# Altium footprint library tdk.PcbLib: 64 footprints (part 3 of 4)
Each footprint in its own frame and in the unit in brackets; x right, y up, seen from the top. Pads: shape width x height; smd on the part's side, far side on the other; paste and mask are expansions set on the pad; w line width, h text height; cw(c..) or ccw(c..) is an arc to the next point about the centre after c.
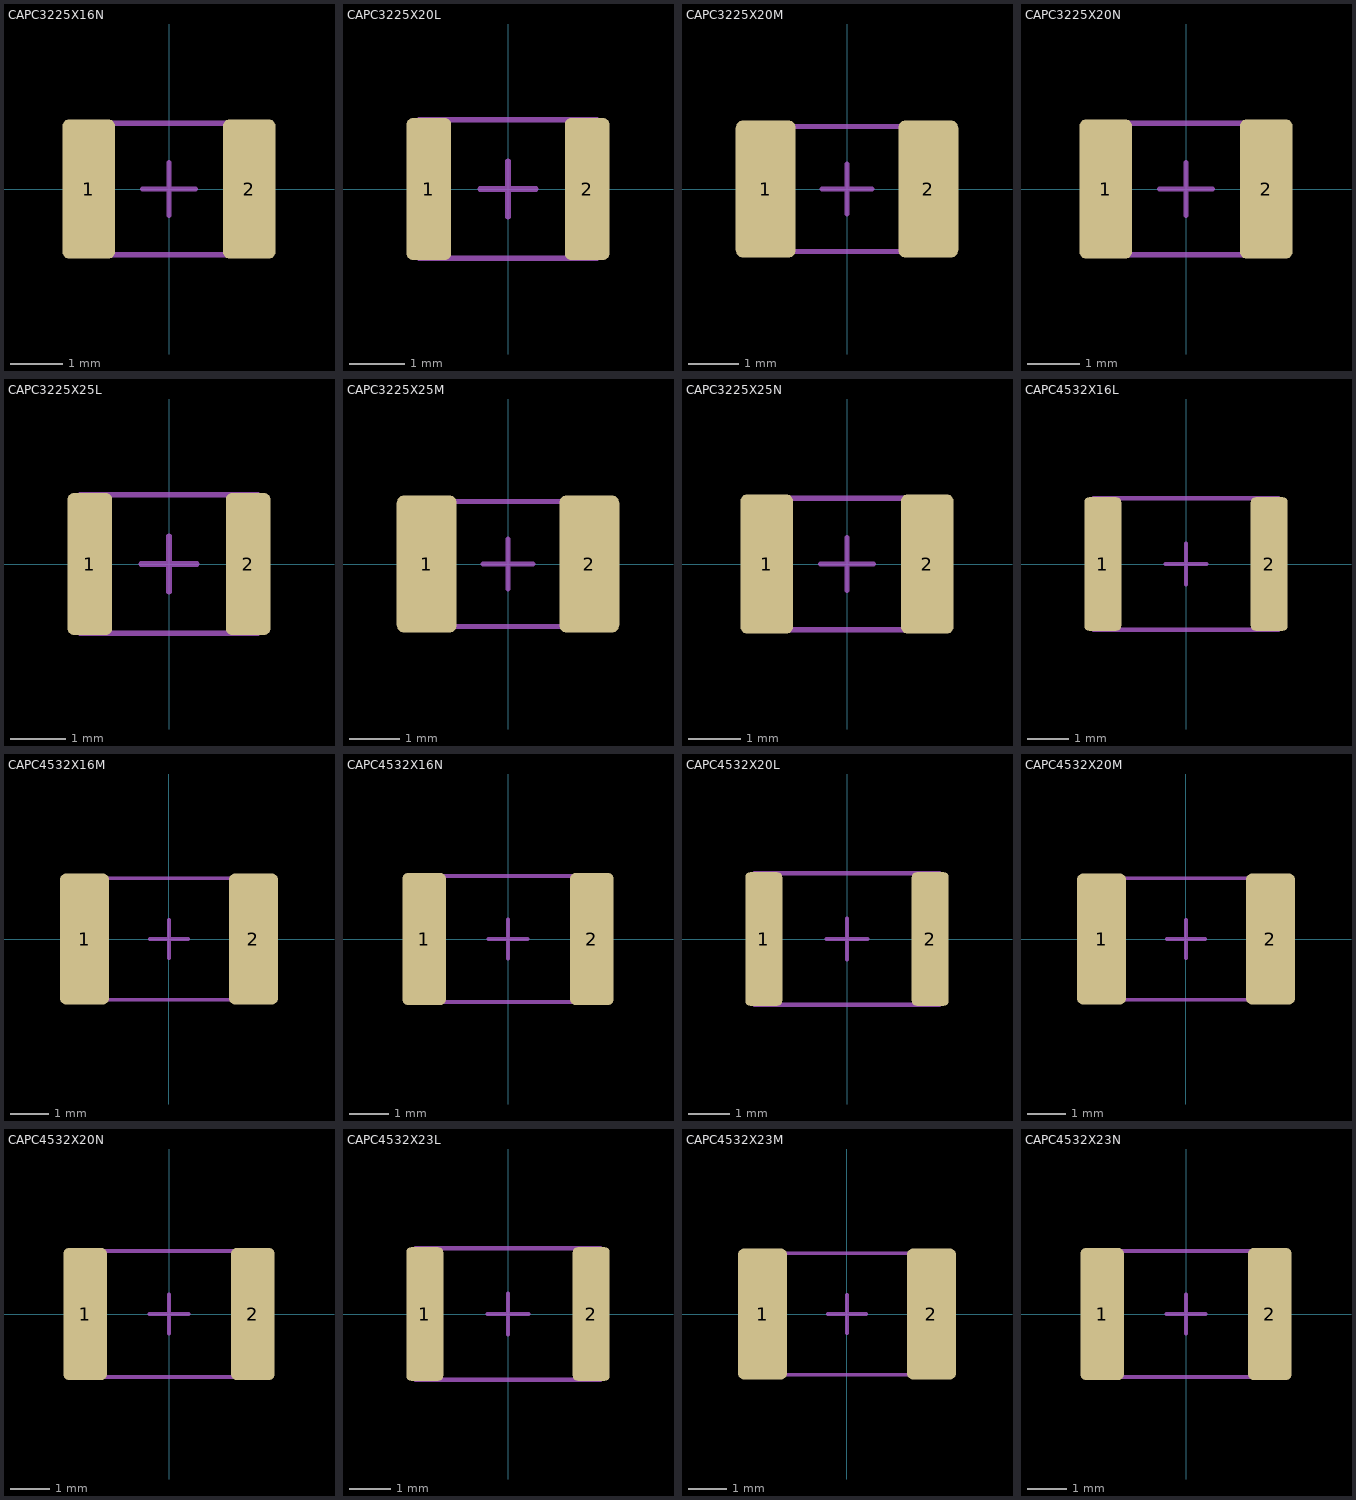
[diagram p2: the footprints below, top view; thin cyan lines are the x and y axes]

## CAPC3225X16N [mm] "Chip Capacitor, 2-Leads, Body 3.20x2.50mm, IPC Medium Density"
height 1.6
pads (2):
  rrect25% 1x2.65 smd mask+0.05: 1(-1.525,0) 2(1.525,0)
Mechanical 15:
  lines w0.1: -0.5,0 0.5,0 ; 0,-0.5 0,0.5 ; -1.6,-1.25 1.6,-1.25 1.6,1.25 -1.6,1.25 -1.6,-1.25
3D body "CAPC3225X16N.step": height 1.6, standoff 0, extent -1.6,-1.25 1.6,1.25

## CAPC3225X20L [mm] "Chip Capacitor, 2-Leads, Body 3.20x2.50mm, IPC High Density"
height 2
pads (2):
  rrect25% 0.8x2.55 smd mask+0.05: 1(-1.425,0) 2(1.425,0)
Mechanical 15:
  lines w0.1: -0.5,0 0.5,0 ; 0,-0.5 0,0.5 ; -1.6,-1.25 1.6,-1.25 1.6,1.25 -1.6,1.25 -1.6,-1.25
3D body "CAPC3225X20L.step": height 2, standoff 0, extent -1.6,-1.25 1.6,1.25

## CAPC3225X20M [mm] "Chip Capacitor, 2-Leads, Body 3.20x2.50mm, IPC Low Density"
height 2
pads (2):
  rrect25% 1.2x2.75 smd mask+0.05: 1(-1.625,0) 2(1.625,0)
Mechanical 15:
  lines w0.1: -0.5,0 0.5,0 ; 0,-0.5 0,0.5 ; -1.6,-1.25 1.6,-1.25 1.6,1.25 -1.6,1.25 -1.6,-1.25
3D body "CAPC3225X20M.step": height 2, standoff 0, extent -1.6,-1.25 1.6,1.25

## CAPC3225X20N [mm] "Chip Capacitor, 2-Leads, Body 3.20x2.50mm, IPC Medium Density"
height 2
pads (2):
  rrect25% 1x2.65 smd mask+0.05: 1(-1.525,0) 2(1.525,0)
Mechanical 15:
  lines w0.1: -0.5,0 0.5,0 ; 0,-0.5 0,0.5 ; -1.6,-1.25 1.6,-1.25 1.6,1.25 -1.6,1.25 -1.6,-1.25
3D body "CAPC3225X20N.step": height 2, standoff 0, extent -1.6,-1.25 1.6,1.25

## CAPC3225X25L [mm] "Chip Capacitor, 2-Leads, Body 3.20x2.50mm, IPC High Density"
height 2.5
pads (2):
  rrect25% 0.8x2.55 smd mask+0.05: 1(-1.425,0) 2(1.425,0)
Mechanical 15:
  lines w0.1: -0.5,0 0.5,0 ; 0,-0.5 0,0.5 ; -1.6,-1.25 1.6,-1.25 1.6,1.25 -1.6,1.25 -1.6,-1.25
3D body "CAPC3225X25L.step": height 2.5, standoff 0, extent -1.6,-1.25 1.6,1.25

## CAPC3225X25M [mm] "Chip Capacitor, 2-Leads, Body 3.20x2.50mm, IPC Low Density"
height 2.5
pads (2):
  rrect25% 1.2x2.75 smd mask+0.05: 1(-1.625,0) 2(1.625,0)
Mechanical 15:
  lines w0.1: -0.5,0 0.5,0 ; 0,-0.5 0,0.5 ; -1.6,-1.25 1.6,-1.25 1.6,1.25 -1.6,1.25 -1.6,-1.25
3D body "CAPC3225X25M.step": height 2.5, standoff 0, extent -1.6,-1.25 1.6,1.25

## CAPC3225X25N [mm] "Chip Capacitor, 2-Leads, Body 3.20x2.50mm, IPC Medium Density"
height 2.5
pads (2):
  rrect25% 1x2.65 smd mask+0.05: 1(-1.525,0) 2(1.525,0)
Mechanical 15:
  lines w0.1: -0.5,0 0.5,0 ; 0,-0.5 0,0.5 ; -1.6,-1.25 1.6,-1.25 1.6,1.25 -1.6,1.25 -1.6,-1.25
3D body "CAPC3225X25N.step": height 2.5, standoff 0, extent -1.6,-1.25 1.6,1.25

## CAPC4532X16L [mm] "Chip Capacitor, 2-Leads, Body 4.50x3.20mm, IPC High Density"
height 1.6
pads (2):
  rrect25% 0.9x3.25 smd mask+0.05: 1(-2.025,0) 2(2.025,0)
Mechanical 15:
  lines w0.1: -0.5,0 0.5,0 ; 0,-0.5 0,0.5 ; -2.25,-1.6 2.25,-1.6 2.25,1.6 -2.25,1.6 -2.25,-1.6
3D body "CAPC4532X16L.step": height 1.6, standoff 0, extent -2.25,-1.6 2.25,1.6

## CAPC4532X16M [mm] "Chip Capacitor, 2-Leads, Body 4.50x3.20mm, IPC Low Density"
height 1.6
pads (2):
  rrect25% 1.3x3.45 smd mask+0.05: 1(-2.225,0) 2(2.225,0)
Mechanical 15:
  lines w0.1: -0.5,0 0.5,0 ; 0,-0.5 0,0.5 ; -2.25,-1.6 2.25,-1.6 2.25,1.6 -2.25,1.6 -2.25,-1.6
3D body "CAPC4532X16M.step": height 1.6, standoff 0, extent -2.25,-1.6 2.25,1.6

## CAPC4532X16N [mm] "Chip Capacitor, 2-Leads, Body 4.50x3.20mm, IPC Medium Density"
height 1.6
pads (2):
  rrect25% 1.1x3.35 smd mask+0.05: 1(-2.125,0) 2(2.125,0)
Mechanical 15:
  lines w0.1: -0.5,0 0.5,0 ; 0,-0.5 0,0.5 ; -2.25,-1.6 2.25,-1.6 2.25,1.6 -2.25,1.6 -2.25,-1.6
3D body "CAPC4532X16N.step": height 1.6, standoff 0, extent -2.25,-1.6 2.25,1.6

## CAPC4532X20L [mm] "Chip Capacitor, 2-Leads, Body 4.50x3.20mm, IPC High Density"
height 2
pads (2):
  rrect25% 0.9x3.25 smd mask+0.05: 1(-2.025,0) 2(2.025,0)
Mechanical 15:
  lines w0.1: -0.5,0 0.5,0 ; 0,-0.5 0,0.5 ; -2.25,-1.6 2.25,-1.6 2.25,1.6 -2.25,1.6 -2.25,-1.6
3D body "CAPC4532X20L.step": height 2, standoff 0, extent -2.25,-1.6 2.25,1.6

## CAPC4532X20M [mm] "Chip Capacitor, 2-Leads, Body 4.50x3.20mm, IPC Low Density"
height 2
pads (2):
  rrect25% 1.3x3.45 smd mask+0.05: 1(-2.225,0) 2(2.225,0)
Mechanical 15:
  lines w0.1: -0.5,0 0.5,0 ; 0,-0.5 0,0.5 ; -2.25,-1.6 2.25,-1.6 2.25,1.6 -2.25,1.6 -2.25,-1.6
3D body "CAPC4532X20M.step": height 2, standoff 0, extent -2.25,-1.6 2.25,1.6

## CAPC4532X20N [mm] "Chip Capacitor, 2-Leads, Body 4.50x3.20mm, IPC Medium Density"
height 2
pads (2):
  rrect25% 1.1x3.35 smd mask+0.05: 1(-2.125,0) 2(2.125,0)
Mechanical 15:
  lines w0.1: -0.5,0 0.5,0 ; 0,-0.5 0,0.5 ; -2.25,-1.6 2.25,-1.6 2.25,1.6 -2.25,1.6 -2.25,-1.6
3D body "CAPC4532X20N.step": height 2, standoff 0, extent -2.25,-1.6 2.25,1.6

## CAPC4532X23L [mm] "Chip Capacitor, 2-Leads, Body 4.50x3.20mm, IPC High Density"
height 2.3
pads (2):
  rrect25% 0.9x3.25 smd mask+0.05: 1(-2.025,0) 2(2.025,0)
Mechanical 15:
  lines w0.1: -0.5,0 0.5,0 ; 0,-0.5 0,0.5 ; -2.25,-1.6 2.25,-1.6 2.25,1.6 -2.25,1.6 -2.25,-1.6
3D body "CAPC4532X23L.step": height 2.3, standoff 0, extent -2.25,-1.6 2.25,1.6

## CAPC4532X23M [mm] "Chip Capacitor, 2-Leads, Body 4.50x3.20mm, IPC Low Density"
height 2.3
pads (2):
  rrect25% 1.3x3.45 smd mask+0.05: 1(-2.225,0) 2(2.225,0)
Mechanical 15:
  lines w0.1: -0.5,0 0.5,0 ; 0,-0.5 0,0.5 ; -2.25,-1.6 -2.25,1.6 2.25,1.6 2.25,-1.6 -2.25,-1.6
3D body "CAPC4532X23M.step": height 2.3, standoff 0, extent -2.25,-1.6 2.25,1.6

## CAPC4532X23N [mm] "Chip Capacitor, 2-Leads, Body 4.50x3.20mm, IPC Medium Density"
height 2.3
pads (2):
  rrect25% 1.1x3.35 smd mask+0.05: 1(-2.125,0) 2(2.125,0)
Mechanical 15:
  lines w0.1: -0.5,0 0.5,0 ; 0,-0.5 0,0.5 ; -2.25,-1.6 2.25,-1.6 2.25,1.6 -2.25,1.6 -2.25,-1.6
3D body "CAPC4532X23N.step": height 2.3, standoff 0, extent -2.25,-1.6 2.25,1.6